# Altium schematic symbol library Schlib_NCE_Power.SchLib: 1 symbol
Pins are listed as number, name and electrical type; pins without a type are passive.

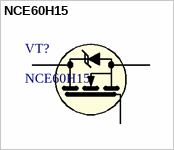
[diagram p0: symbol NCE60H15]

## NCE60H15
designator VT?
N-Channel MOSFET, 60V, 150A Rds=4.5mOhm @ 10V; Manufacturer: NCE Power; Part Number: NCE60H15; Package: TO220-3
footprint TO-220B-3
footprint TO-220B-3 (HORIZONTAL)
pins: 1 G, 2 D, 3 S